# Altium footprint library 74HC165PW,118.PcbLib: 3 footprints
Each footprint in its own frame and in the unit in brackets; x right, y up, seen from the top. Pads: shape width x height; smd on the part's side, far side on the other; paste and mask are expansions set on the pad; w line width, h text height; cw(c..) or ccw(c..) is an arc to the next point about the centre after c.
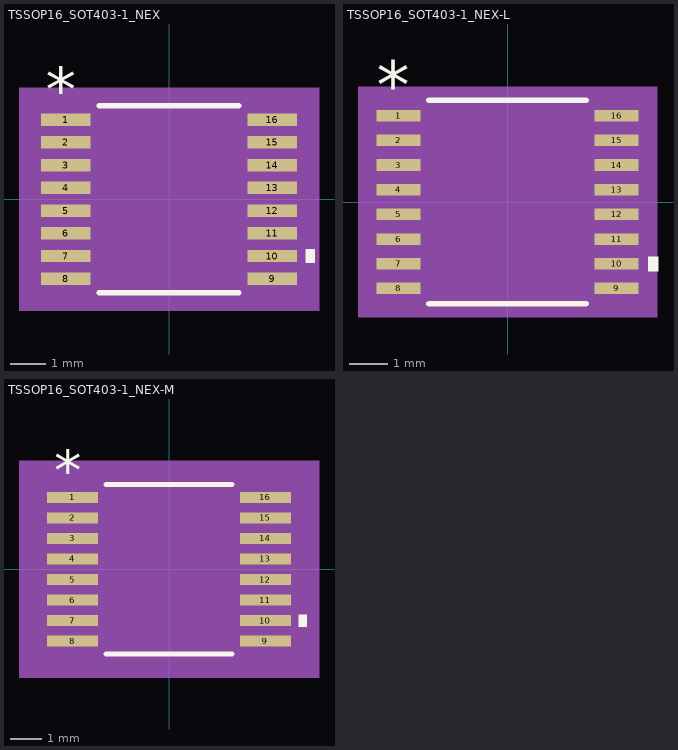
[diagram p0: the footprints below, top view; thin cyan lines are the x and y axes]

## TSSOP16_SOT403-1_NEX [mil]
pads (16):
  rect 55.5x14 smd paste+0 mask+0: 1(-116.25,89.57) 2(-116.25,63.98) 3(-116.25,38.39) 4(-116.25,12.8) 5(-116.25,-12.8) 6(-116.25,-38.39) 7(-116.25,-63.98) 8(-116.25,-89.57) 9(116.25,-89.57) 10(116.25,-63.98) 11(116.25,-38.39) 12(116.25,-12.8) 13(116.25,12.8) 14(116.25,38.39) 15(116.25,63.98) 16(116.25,89.57)
Top Overlay:
  region: 154,-56.48 164,-56.48 164,-71.48 154,-71.48
  lines w6: -78.92,-105.5 78.92,-105.5 ; -78.92,105.5 78.92,105.5
  text "*" at -138.75,98.57 h50
Mechanical 5:
  region: 169,-125.5 -169,-125.5 -169,125.5 169,125.5
Mechanical 13:
  lines w0: -12,100.5 ccw(c0,100.5) 12,100.5
  lines w1: -130,-95.57 -130,-83.57 -88.5,-83.57 -88.5,-95.57 -130,-95.57 ; -130,-69.98 -130,-57.98 -88.5,-57.98 -88.5,-69.98 -130,-69.98 ; -130,-44.39 -130,-32.39 -88.5,-32.39 -88.5,-44.39 -130,-44.39 ; -130,-18.8 -130,-6.8 -88.5,-6.8 -88.5,-18.8 -130,-18.8 ; -130,6.8 -130,18.8 -88.5,18.8 -88.5,6.8 -130,6.8 ; -130,32.39 -130,44.39 -88.5,44.39 -88.5,32.39 -130,32.39 ; -130,57.98 -130,69.98 -88.5,69.98 -88.5,57.98 -130,57.98 ; -130,83.57 -130,95.57 -88.5,95.57 -88.5,83.57 -130,83.57 ; -88.5,-100.5 88.5,-100.5 88.5,100.5 -88.5,100.5 -88.5,-100.5 ; 88.5,-95.57 88.5,-83.57 130,-83.57 130,-95.57 88.5,-95.57 ; 88.5,-69.98 88.5,-57.98 130,-57.98 130,-69.98 88.5,-69.98 ; 88.5,-44.39 88.5,-32.39 130,-32.39 130,-44.39 88.5,-44.39 ; 88.5,-18.8 88.5,-6.8 130,-6.8 130,-18.8 88.5,-18.8 ; 88.5,6.8 88.5,18.8 130,18.8 130,6.8 88.5,6.8 ; 88.5,32.39 88.5,44.39 130,44.39 130,32.39 88.5,32.39 ; 88.5,57.98 88.5,69.98 130,69.98 130,57.98 88.5,57.98 ; 88.5,83.57 88.5,95.57 130,95.57 130,83.57 88.5,83.57
  text "*" at -86,47.5 h50
Mechanical 15:
  region: -98.5,-106.57 -154,-106.57 -154,106.57 -98.5,106.57 -98.5,110.5 98.5,110.5 98.5,106.57 154,106.57 154,-106.57 98.5,-106.57 98.5,-110.5 -98.5,-110.5
  lines w6: -154,-106.57 -154,106.57 -98.5,106.57 -98.5,110.5 98.5,110.5 98.5,106.57 154,106.57 154,-106.57 98.5,-106.57 98.5,-110.5 -98.5,-110.5 -98.5,-106.57 -154,-106.57
3D body "TSSOP16_SOT403-1_NEX.step": height 43.11, standoff 0, extent -130,-100.51 130,100.51

## TSSOP16_SOT403-1_NEX-L [mil]
pads (16):
  rect 46x12 smd paste+0 mask+0: 1(-113,89.57) 2(-113,63.98) 3(-113,38.39) 4(-113,12.8) 5(-113,-12.8) 6(-113,-38.39) 7(-113,-63.98) 8(-113,-89.57) 9(113,-89.57) 10(113,-63.98) 11(113,-38.39) 12(113,-12.8) 13(113,12.8) 14(113,38.39) 15(113,63.98) 16(113,89.57)
Top Overlay:
  region: 146,-56.48 156,-56.48 156,-71.48 146,-71.48
  lines w6: -81.46,-105.5 81.46,-105.5 ; -81.46,105.5 81.46,105.5
  text "*" at -135.5,96.57 h50
Mechanical 5:
  region: 155,-119.5 -155,-119.5 -155,119.5 155,119.5
Mechanical 13:
  lines w0: -12,100.5 ccw(c0,100.5) 12,100.5
  lines w1: -130,-95.57 -130,-83.57 -88.5,-83.57 -88.5,-95.57 -130,-95.57 ; -130,-69.98 -130,-57.98 -88.5,-57.98 -88.5,-69.98 -130,-69.98 ; -130,-44.39 -130,-32.39 -88.5,-32.39 -88.5,-44.39 -130,-44.39 ; -130,-18.8 -130,-6.8 -88.5,-6.8 -88.5,-18.8 -130,-18.8 ; -130,6.8 -130,18.8 -88.5,18.8 -88.5,6.8 -130,6.8 ; -130,32.39 -130,44.39 -88.5,44.39 -88.5,32.39 -130,32.39 ; -130,57.98 -130,69.98 -88.5,69.98 -88.5,57.98 -130,57.98 ; -130,83.57 -130,95.57 -88.5,95.57 -88.5,83.57 -130,83.57 ; -88.5,-100.5 88.5,-100.5 88.5,100.5 -88.5,100.5 -88.5,-100.5 ; 88.5,-95.57 88.5,-83.57 130,-83.57 130,-95.57 88.5,-95.57 ; 88.5,-69.98 88.5,-57.98 130,-57.98 130,-69.98 88.5,-69.98 ; 88.5,-44.39 88.5,-32.39 130,-32.39 130,-44.39 88.5,-44.39 ; 88.5,-18.8 88.5,-6.8 130,-6.8 130,-18.8 88.5,-18.8 ; 88.5,6.8 88.5,18.8 130,18.8 130,6.8 88.5,6.8 ; 88.5,32.39 88.5,44.39 130,44.39 130,32.39 88.5,32.39 ; 88.5,57.98 88.5,69.98 130,69.98 130,57.98 88.5,57.98 ; 88.5,83.57 88.5,95.57 130,95.57 130,83.57 88.5,83.57
  text "*" at -86,47.5 h50
Mechanical 15:
  region: -92.5,-99.57 -140,-99.57 -140,99.57 -92.5,99.57 -92.5,104.5 92.5,104.5 92.5,99.57 140,99.57 140,-99.57 92.5,-99.57 92.5,-104.5 -92.5,-104.5
  lines w6: -140,-99.57 -140,99.57 -92.5,99.57 -92.5,104.5 92.5,104.5 92.5,99.57 140,99.57 140,-99.57 92.5,-99.57 92.5,-104.5 -92.5,-104.5 -92.5,-99.57 -140,-99.57
3D body "TSSOP16_SOT403-1_NEX.step": height 43.11, standoff 0, extent -130,-100.51 130,100.51

## TSSOP16_SOT403-1_NEX-M [mil]
pads (16):
  rect 63.5x14 smd paste+0 mask+0: 1(-120.25,89.57) 2(-120.25,63.98) 3(-120.25,38.39) 4(-120.25,12.8) 5(-120.25,-12.8) 6(-120.25,-38.39) 7(-120.25,-63.98) 8(-120.25,-89.57) 9(120.25,-89.57) 10(120.25,-63.98) 11(120.25,-38.39) 12(120.25,-12.8) 13(120.25,12.8) 14(120.25,38.39) 15(120.25,63.98) 16(120.25,89.57)
Top Overlay:
  region: 162,-56.48 172,-56.48 172,-71.48 162,-71.48
  lines w6: -78.92,-105.5 78.92,-105.5 ; -78.92,105.5 78.92,105.5
  text "*" at -142.75,98.57 h50
Mechanical 5:
  region: 187,-135.5 -187,-135.5 -187,135.5 187,135.5
Mechanical 13:
  lines w0: -12,100.5 ccw(c0,100.5) 12,100.5
  lines w1: -130,-95.57 -130,-83.57 -88.5,-83.57 -88.5,-95.57 -130,-95.57 ; -130,-69.98 -130,-57.98 -88.5,-57.98 -88.5,-69.98 -130,-69.98 ; -130,-44.39 -130,-32.39 -88.5,-32.39 -88.5,-44.39 -130,-44.39 ; -130,-18.8 -130,-6.8 -88.5,-6.8 -88.5,-18.8 -130,-18.8 ; -130,6.8 -130,18.8 -88.5,18.8 -88.5,6.8 -130,6.8 ; -130,32.39 -130,44.39 -88.5,44.39 -88.5,32.39 -130,32.39 ; -130,57.98 -130,69.98 -88.5,69.98 -88.5,57.98 -130,57.98 ; -130,83.57 -130,95.57 -88.5,95.57 -88.5,83.57 -130,83.57 ; -88.5,-100.5 88.5,-100.5 88.5,100.5 -88.5,100.5 -88.5,-100.5 ; 88.5,-95.57 88.5,-83.57 130,-83.57 130,-95.57 88.5,-95.57 ; 88.5,-69.98 88.5,-57.98 130,-57.98 130,-69.98 88.5,-69.98 ; 88.5,-44.39 88.5,-32.39 130,-32.39 130,-44.39 88.5,-44.39 ; 88.5,-18.8 88.5,-6.8 130,-6.8 130,-18.8 88.5,-18.8 ; 88.5,6.8 88.5,18.8 130,18.8 130,6.8 88.5,6.8 ; 88.5,32.39 88.5,44.39 130,44.39 130,32.39 88.5,32.39 ; 88.5,57.98 88.5,69.98 130,69.98 130,57.98 88.5,57.98 ; 88.5,83.57 88.5,95.57 130,95.57 130,83.57 88.5,83.57
  text "*" at -86,47.5 h50
Mechanical 15:
  region: -108.5,-116.57 -172,-116.57 -172,116.57 -108.5,116.57 -108.5,120.5 108.5,120.5 108.5,116.57 172,116.57 172,-116.57 108.5,-116.57 108.5,-120.5 -108.5,-120.5
  lines w6: -172,-116.57 -172,116.57 -108.5,116.57 -108.5,120.5 108.5,120.5 108.5,116.57 172,116.57 172,-116.57 108.5,-116.57 108.5,-120.5 -108.5,-120.5 -108.5,-116.57 -172,-116.57
3D body "TSSOP16_SOT403-1_NEX.step": height 43.11, standoff 0, extent -130,-100.51 130,100.51